# EAGLE library part LT3517_TSSOP (library LT3517)
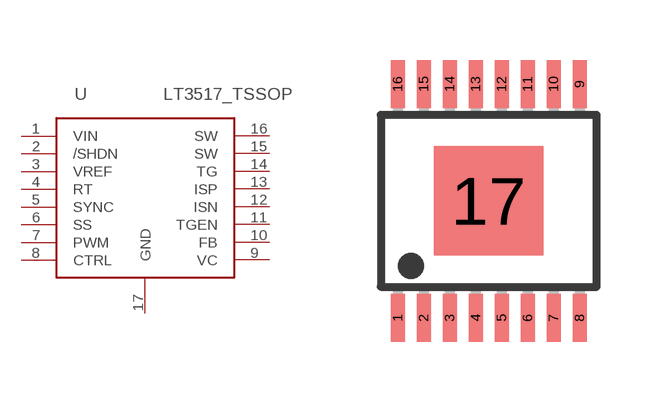
[diagram p0: symbol with the pads of TSSOP16_PAD; footprint TSSOP16_PAD]

Designator prefix -

## LT3517_TSSOP  [TSSOP16_PAD]
1  VIN
2  /SHDN
3  VREF
4  RT
5  SYNC
6  SS
7  PWM
8  CTRL
9  VC
10  FB
11  TGEN
12  ISN
13  ISP
14  TG
15  SW
16  SW
17  GND

## Footprint TSSOP16_PAD (pad centres in mm)
PW (R-PDSO-G8) Source: http://focus.ti.com/lit/ds/symlink/ads1271.pdf
smd 0.35 x 1.2: 1 -2.275,-2.925; 2 -1.625,-2.925; 3 -0.975,-2.925; 4 -0.325,-2.925; 5 0.325,-2.925; 6 0.975,-2.925; 7 1.625,-2.925; 8 2.275,-2.925; 9 2.275,2.925; 10 1.625,2.925; 11 0.975,2.925; 12 0.325,2.925; 13 -0.325,2.925; 14 -0.975,2.925; 15 -1.625,2.925; 16 -2.275,2.925
smd 2.74 x 2.74: 17 0,0